# Altium footprint library CONN-TJ2-8P8C.PcbLib: 1 footprints
Each footprint in its own frame and in the unit in brackets; x right, y up, seen from the top. Pads: shape width x height; smd on the part's side, far side on the other; paste and mask are expansions set on the pad; w line width, h text height; cw(c..) or ccw(c..) is an arc to the next point about the centre after c.
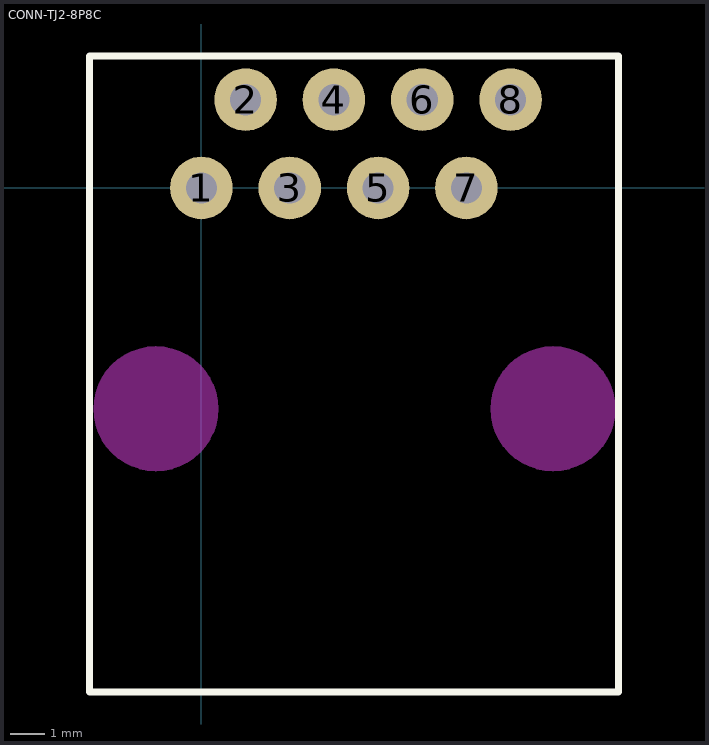
[diagram p0: the footprint, top view; thin cyan lines are the x and y axes]

## CONN-TJ2-8P8C [mm]
pads (8):
  round 1.8 hole 0.9: 1(0,0) 2(1.27,2.54) 3(2.54,0) 4(3.81,2.54) 5(5.08,0) 6(6.35,2.54) 7(7.62,0) 8(8.89,2.54)
Top Overlay:
  lines w0.2: -3.22,-14.5 -3.22,3.8 12,3.8 12,-14.5 -3.22,-14.5
Keep-Out Layer:
  board cut-out: 8.36,-6.35 8.36,-6.522 8.427,-6.86 8.559,-7.179 8.751,-7.466 8.994,-7.709 9.281,-7.901 9.6,-8.033 9.938,-8.1 10.11,-8.1 10.282,-8.1 10.62,-8.033 10.939,-7.901 11.226,-7.709 11.469,-7.466 11.661,-7.179 11.793,-6.86 11.86,-6.522 11.86,-6.35 11.86,-6.178 11.793,-5.84 11.661,-5.521 11.469,-5.234 11.226,-4.991 10.939,-4.799 10.62,-4.667 10.282,-4.6 10.11,-4.6 9.938,-4.6 9.6,-4.667 9.281,-4.799 8.994,-4.991 8.751,-5.234 8.559,-5.521 8.427,-5.84 8.36,-6.178
  board cut-out: -3.06,-6.35 -3.06,-6.522 -2.993,-6.86 -2.861,-7.179 -2.669,-7.466 -2.426,-7.709 -2.139,-7.901 -1.82,-8.033 -1.482,-8.1 -1.31,-8.1 -1.138,-8.1 -0.8,-8.033 -0.481,-7.901 -0.194,-7.709 0.049,-7.466 0.241,-7.179 0.373,-6.86 0.44,-6.522 0.44,-6.35 0.44,-6.178 0.373,-5.84 0.241,-5.521 0.049,-5.234 -0.194,-4.991 -0.481,-4.799 -0.8,-4.667 -1.138,-4.6 -1.31,-4.6 -1.482,-4.6 -1.82,-4.667 -2.139,-4.799 -2.426,-4.991 -2.669,-5.234 -2.861,-5.521 -2.993,-5.84 -3.06,-6.178
Keep-Out Layer:
  circle w0.1: c-1.31,-6.35 r1.75
  circle w0.1: c10.11,-6.35 r1.75
Top Assembly:
  lines w0.1: -3.225,-14.5 -3.225,3.8 12,3.8 12,-14.5 -3.225,-14.5
  text "'.Designator'" at 0.375,-5.7 h0.7
3D body "User Library-TJ12-8P8C.step": height 12.7, standoff -3.36, extent -3.22,-14.488 12.02,3.8